# Altium footprint library ESP32.PcbLib: 1 footprints
Each footprint in its own frame and in the unit in brackets; x right, y up, seen from the top. Pads: shape width x height; smd on the part's side, far side on the other; paste and mask are expansions set on the pad; w line width, h text height; cw(c..) or ccw(c..) is an arc to the next point about the centre after c.
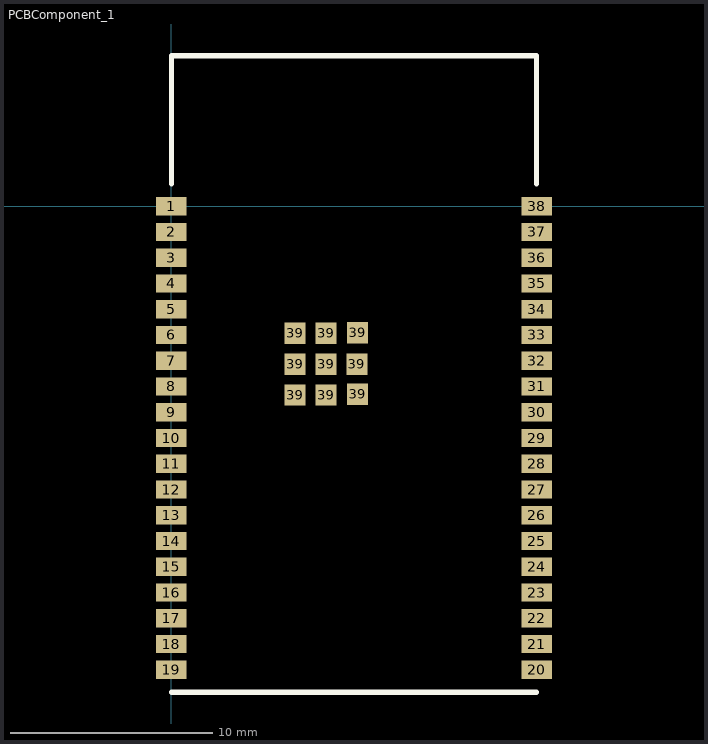
[diagram p0: the footprint, top view; thin cyan lines are the x and y axes]

## PCBComponent_1 [mm]
pads (47):
  rect 1.5x0.9 smd: 1(0,0) 2(0,-1.27) 3(0,-2.54) 4(0,-3.81) 5(0,-5.08) 6(0,-6.35) 7(0,-7.62) 8(0,-8.89) 9(0,-10.16) 10(0,-11.43) 11(0,-12.7) 12(0,-13.97) 13(0,-15.24) 14(0,-16.51) 15(0,-17.78) 16(0,-19.05) 17(0,-20.32) 18(0,-21.59) 19(0,-22.86) 20(18,-22.86) 21(18,-21.59) 22(18,-20.32) 23(18,-19.05) 24(18,-17.78) 25(18,-16.51) 26(18,-15.24) 27(18,-13.97) 28(18,-12.7) 29(18,-11.43) 30(18,-10.16) 31(18,-8.89) 32(18,-7.62) 33(18,-6.35) 34(18,-5.08) 35(18,-3.81) 36(18,-2.54) 37(18,-1.27) 38(18,0)
  rect 1.05x1.05 smd: 39(6.095,-9.315) 39(6.095,-7.79) 39(6.095,-6.265) 39(7.62,-9.315) 39(7.62,-7.79) 39(7.62,-6.265) 39(9.145,-7.79) 39(9.177,-9.268) 39(9.177,-6.24)
Top Overlay:
  lines w0.254: 0,-23.96 18,-23.96 ; 0,1.1 0,7.41 18,7.41 18,1.1